# Altium schematic symbol library Metal Screening Box.SchLib: 10 symbols
Pins are listed as number, name and electrical type; pins without a type are passive.

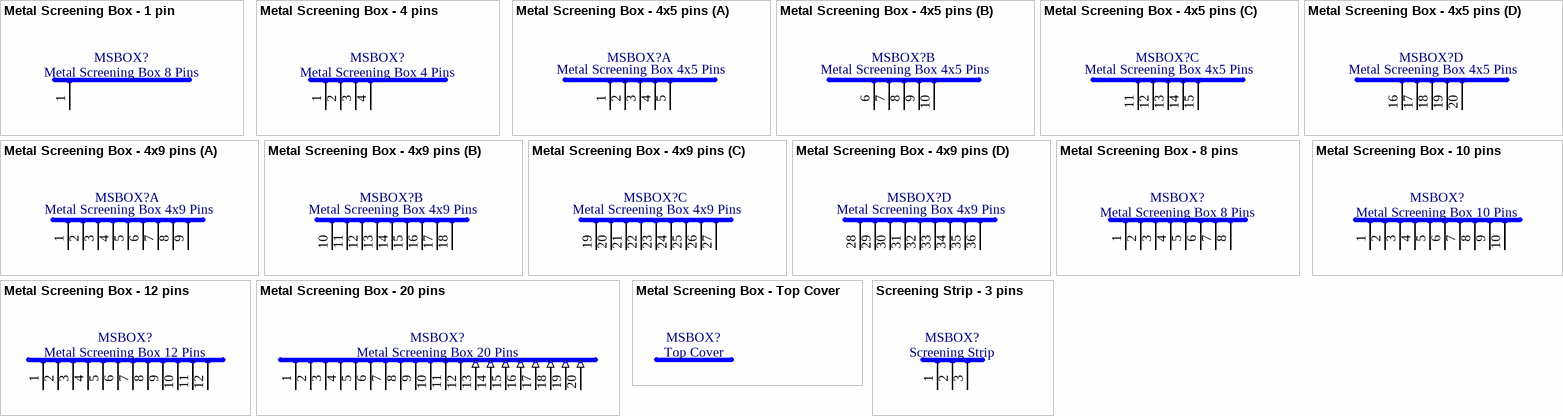
[diagram p0: symbols Metal Screening Box - 1 pin to Screening Strip - 3 pins]

## Metal Screening Box - 1 pin
designator MSBOX?, comment Metal Screening Box 8 Pins
Metal Screening Box 1 Pin
pins: 1

## Metal Screening Box - 4 pins
designator MSBOX?, comment Metal Screening Box 4 Pins
pins: 1, 2, 3, 4

## Metal Screening Box - 4x5 pins
designator MSBOX?, comment Metal Screening Box 4x5 Pins
Metal Screening Box 20 (4x5) Pins
part A pins: 1, 2, 3, 4, 5
part B pins: 6, 7, 8, 9, 10
part C pins: 11, 12, 13, 14, 15
part D pins: 16, 17, 18, 19, 20

## Metal Screening Box - 4x9 pins
designator MSBOX?, comment Metal Screening Box 4x9 Pins
Metal Screening Box 36 (4x9) Pins
part A pins: 1, 2, 3, 4, 5, 6, 7, 8, 9
part B pins: 10, 11, 12, 13, 14, 15, 16, 17, 18
part C pins: 19, 20, 21, 22, 23, 24, 25, 26, 27
part D pins: 28, 29, 30, 31, 32, 33, 34, 35, 36

## Metal Screening Box - 8 pins
designator MSBOX?, comment Metal Screening Box 8 Pins
pins: 1, 2, 3, 4, 5, 6, 7, 8

## Metal Screening Box - 10 pins
designator MSBOX?, comment Metal Screening Box 10 Pins
pins: 1, 2, 3, 4, 5, 6, 7, 8, 9, 10

## Metal Screening Box - 12 pins
designator MSBOX?, comment Metal Screening Box 12 Pins
pins: 1, 2, 3, 4, 5, 6, 7, 8, 9, 10, 11, 12

## Metal Screening Box - 20 pins
designator MSBOX?, comment Metal Screening Box 20 Pins
pins: 1, 2, 3, 4, 5, 6, 7, 8, 9, 10, 11, 12, 13 (in), 14 (in), 15 (in), 16 (in), 17 (in), 18 (in), 19 (in), 20 (in)

## Metal Screening Box - Top Cover
designator MSBOX?, comment Top Cover
Metal Screening Box - Top Cover 0 Pin

## Screening Strip - 3 pins
designator MSBOX?, comment Screening Strip
Screening Strip - 3 pins
pins: 1, 2, 3